# Altium footprint library CONN_uSD_CARD_SMD.PcbLib: 1 footprints
Each footprint in its own frame and in the unit in brackets; x right, y up, seen from the top. Pads: shape width x height; smd on the part's side, far side on the other; paste and mask are expansions set on the pad; w line width, h text height; cw(c..) or ccw(c..) is an arc to the next point about the centre after c.
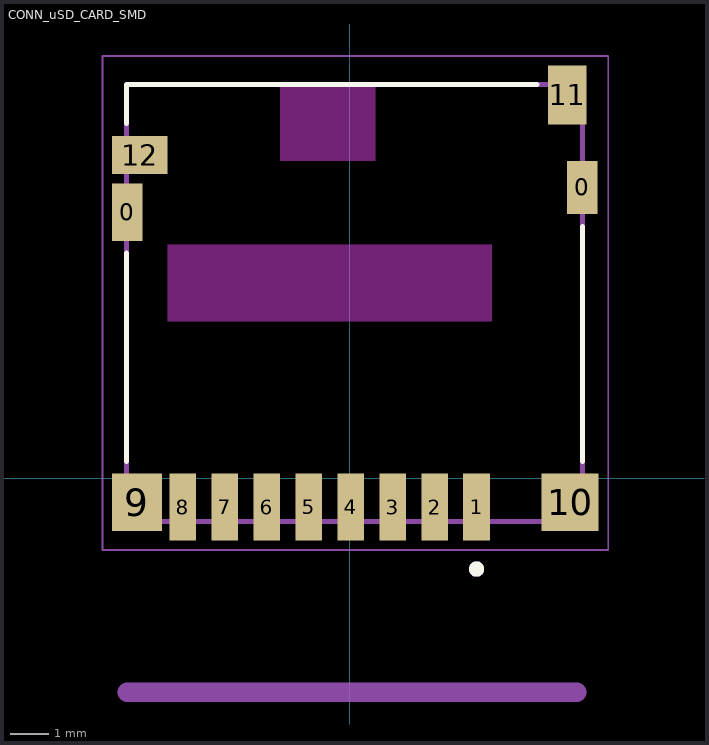
[diagram p0: the footprint, top view; thin cyan lines are the x and y axes]

## CONN_uSD_CARD_SMD [mm]
pads (14):
  rect 0.8x1.5 smd: 0(-5.823,6.977)
  rect 0.8x1.4 smd: 0(6.102,7.627)
  rect 0.7x1.75 smd: 1(3.327,-0.748) 2(2.227,-0.748) 3(1.127,-0.748) 4(0.027,-0.748) 5(-1.073,-0.748) 6(-2.173,-0.748) 7(-3.273,-0.748) 8(-4.373,-0.748)
  rect 1.3x1.5 smd: 9(-5.573,-0.623)
  rect 1.5x1.5 smd: 10(5.777,-0.623)
  rect 1x1.55 smd: 11(5.702,10.052)
  rect 1.45x1 smd: 12(-5.498,8.477)
Top Overlay:
  circle w0.2: c3.327,-2.373 r0.1
  lines w0.127: -5.848,0.447 -5.848,5.907 ; -5.848,9.297 -5.848,10.327 4.907,10.327 ; 6.102,0.447 6.102,6.607
Keep-Out Layer:
  region: 3.727,4.127 -4.773,4.127 -4.773,6.127 3.727,6.127
  region: 0.677,8.327 -1.823,8.327 -1.823,10.327 0.677,10.327
  region: 0.677,8.327 -1.823,8.327 -1.823,10.327 0.677,10.327
  region: 3.727,4.127 -4.773,4.127 -4.773,6.127 3.727,6.127
Mechanical 1:
  lines w0.508: -5.825,-5.6 5.95,-5.6
  text ".designator" at -1.538,6.875 h0.64
  text "uSD CARD IN" at -2.069,-6.4 h0.64
Mechanical 13:
  circle w0.2: c3.327,-2.373 r0.1
  lines w0.127: -5.848,-1.123 6.102,-1.123 6.102,10.327 -5.848,10.327 -5.848,-1.123
Mechanical 15:
  lines w0.05: -6.473,-1.873 -6.473,11.077 6.777,11.077 6.777,-1.873 -6.473,-1.873
3D body "CONN_uSD_CARD_SMD.STEP": height 1.51, standoff 0.01, extent -5.883,-1.143 6.137,10.507